# EAGLE library part LIS3MDL (library gps_tracker)
Digital output magnetic sensor: ultra-low-power high-performance 3-axis magnetometer The LIS3MDL is an ultra-low-power high-performance three-axis Magnetic Sensor. It has user-selectable full scales of ±4/ ±8/ ±12/ ±16 gauss. The self-test capability allows the user to check the functioning of the sensor in the final application. The device may be configured to generate interrupt signals for magnetic field detection. It includes an I²C serial bus interface that supports standard and fast mode (100 and 400kHz) and SPI serial standard interface. Independent IO Supply (1.8V) ±4/±8/±12/±16 Gauss Selectable Magnetic Full Scale Continuous and Single-conversion Modes 16-bit Data Output Interrupt Generator Self-test I²C/SPI Digital Output Interface Power-down Mode/Low-power Mode
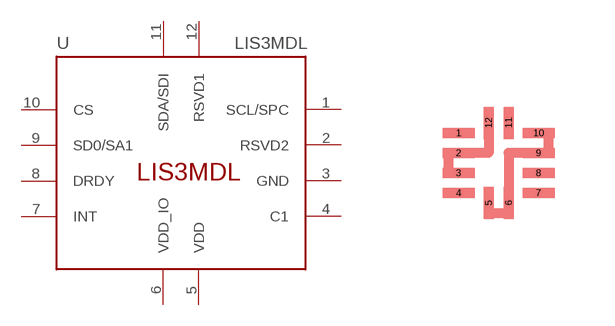
[diagram p4: symbol with the pads of VFLGA-12; footprint VFLGA-12]

Designator prefix U

## LIS3MDL  [VFLGA-12]
1  SCL/SPC
2  RSVD2
3  GND  pwr
4  C1
5  VDD
6  VDD_IO  pwr
7  INT
8  DRDY
9  SD0/SA1
10  CS
11  SDA/SDI
12  RSVD1

## Footprint VFLGA-12 (pad centres in mm)
LGA8 Package 5.0x3.0x1.2mm 8-pad Used in MPL115A1 -
smd 0.8 x 0.25: 1 -1,0.75; 2 -1,0.25; 3 -1,-0.25; 4 -1,-0.75; 7 1,-0.75; 8 1,-0.25; 9 1,0.25; 10 1,0.75
smd 0.25 x 0.8: 5 -0.25,-1; 6 0.25,-1; 11 0.25,1; 12 -0.25,1